# Altium schematic symbol library Kanaloa_v2.0.0_Motor.SchLib: 6 symbols
Pins are listed as number, name and electrical type; pins without a type are passive.

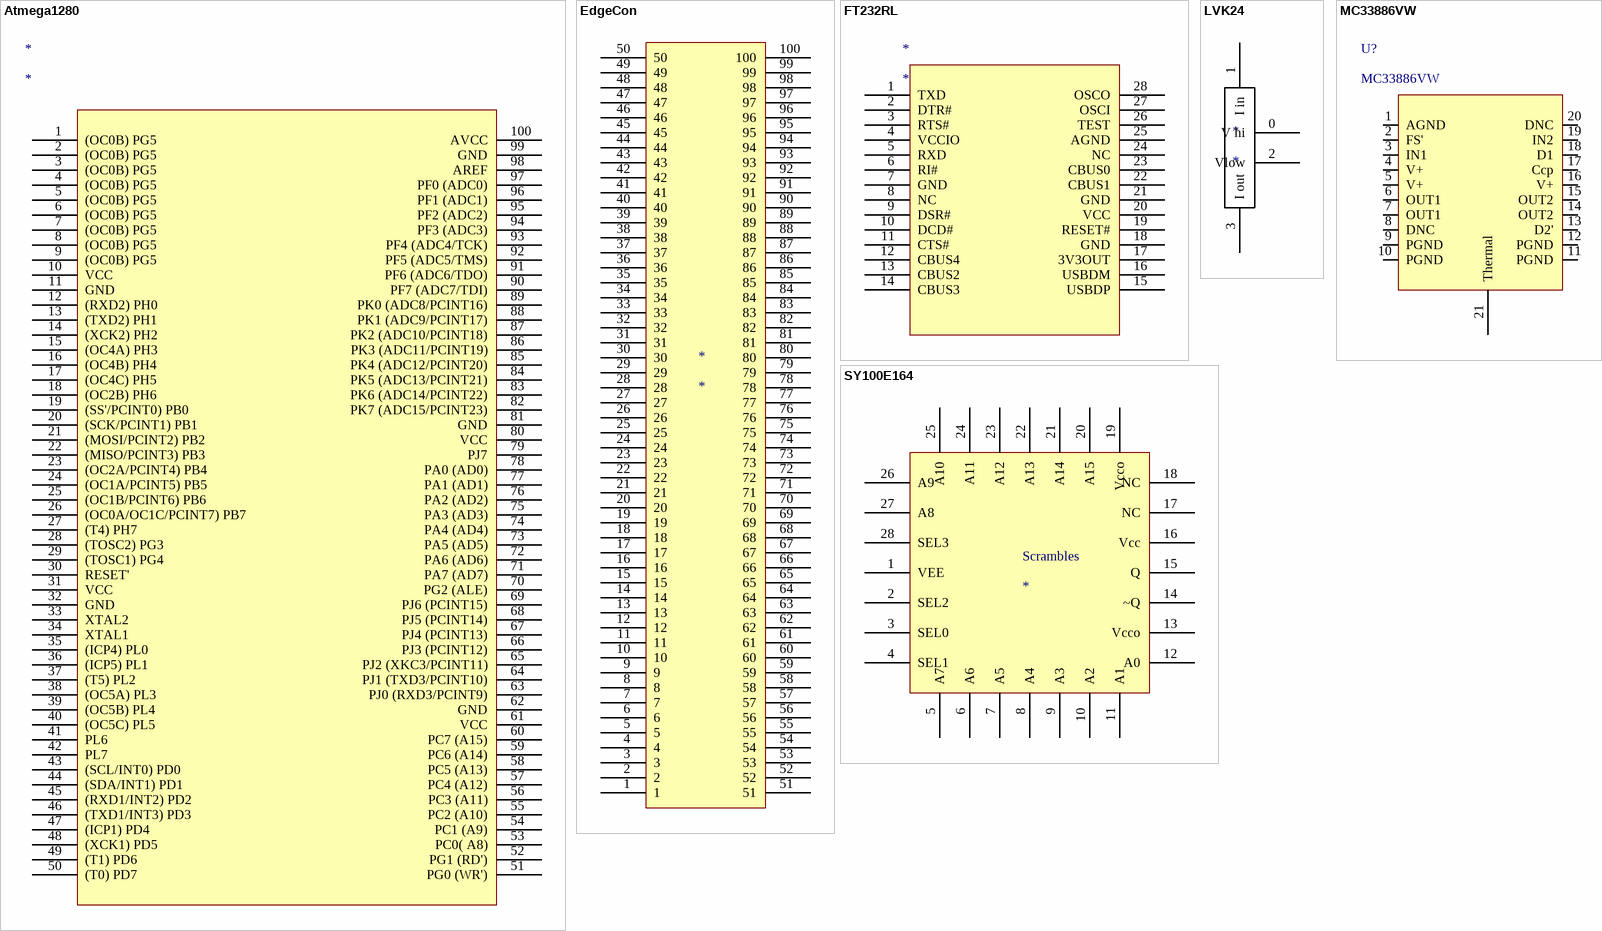
[diagram p0: symbols Atmega1280 to SY100E164]

## Atmega1280
designator *
footprint TSQFP50P1600X1600X120-100N (TSQFP, 100-Leads, Body 16.3x16.3mm (max), Pitch 0.50mm, IPC Medium Density)
pins: 1 (OC0B) PG5, 2 (OC0B) PG5, 3 (OC0B) PG5, 4 (OC0B) PG5, 5 (OC0B) PG5, 6 (OC0B) PG5, 7 (OC0B) PG5, 8 (OC0B) PG5, 9 (OC0B) PG5, 10 VCC, 11 GND, 12 (RXD2) PH0, 13 (TXD2) PH1, 14 (XCK2) PH2, 15 (OC4A) PH3, 16 (OC4B) PH4, 17 (OC4C) PH5, 18 (OC2B) PH6, 19 (SS'/PCINT0) PB0, 20 (SCK/PCINT1) PB1, 21 (MOSI/PCINT2) PB2, 22 (MISO/PCINT3) PB3, 23 (OC2A/PCINT4) PB4, 24 (OC1A/PCINT5) PB5, 25 (OC1B/PCINT6) PB6, 26 (OC0A/OC1C/PCINT7) PB7, 27 (T4) PH7, 28 (TOSC2) PG3, 29 (TOSC1) PG4, 30 RESET', 31 VCC, 32 GND, 33 XTAL2, 34 XTAL1, 35 (ICP4) PL0, 36 (ICP5) PL1, 37 (T5) PL2, 38 (OC5A) PL3, 39 (OC5B) PL4, 40 (OC5C) PL5, 41 PL6, 42 PL7, 43 (SCL/INT0) PD0, 44 (SDA/INT1) PD1, 45 (RXD1/INT2) PD2, 46 (TXD1/INT3) PD3, 47 (ICP1) PD4, 48 (XCK1) PD5, 49 (T1) PD6, 50 (T0) PD7, 51 PG0 (WR'), 52 PG1 (RD'), 53 PC0( A8), 54 PC1 (A9), 55 PC2 (A10), 56 PC3 (A11), 57 PC4 (A12), 58 PC5 (A13), 59 PC6 (A14), 60 PC7 (A15), 61 VCC, 62 GND, 63 PJ0 (RXD3/PCINT9), 64 PJ1 (TXD3/PCINT10), 65 PJ2 (XKC3/PCINT11), 66 PJ3 (PCINT12), 67 PJ4 (PCINT13), 68 PJ5 (PCINT14), 69 PJ6 (PCINT15), 70 PG2 (ALE), 71 PA7 (AD7), 72 PA6 (AD6), 73 PA5 (AD5), 74 PA4 (AD4), 75 PA3 (AD3), 76 PA2 (AD2), 77 PA1 (AD1), 78 PA0 (AD0), 79 PJ7, 80 VCC, 81 GND, 82 PK7 (ADC15/PCINT23), 83 PK6 (ADC14/PCINT22), 84 PK5 (ADC13/PCINT21), 85 PK4 (ADC12/PCINT20), 86 PK3 (ADC11/PCINT19), 87 PK2 (ADC10/PCINT18), 88 PK1 (ADC9/PCINT17), 89 PK0 (ADC8/PCINT16), 90 PF7 (ADC7/TDI), 91 PF6 (ADC6/TDO), 92 PF5 (ADC5/TMS), 93 PF4 (ADC4/TCK), 94 PF3 (ADC3), 95 PF2 (ADC2), 96 PF1 (ADC1), 97 PF0 (ADC0), 98 AREF, 99 GND, 100 AVCC

## EdgeCon
designator *
footprint 5645235-3 CON
pins: 1, 2, 3, 4, 5, 6, 7, 8, 9, 10, 11, 12, 13, 14, 15, 16, 17, 18, 19, 20, 21, 22, 23, 24, 25, 26, 27, 28, 29, 30, 31, 32, 33, 34, 35, 36, 37, 38, 39, 40, 41, 42, 43, 44, 45, 46, 47, 48, 49, 50, 51, 52, 53, 54, 55, 56, 57, 58, 59, 60, 61, 62, 63, 64, 65, 66, 67, 68, 69, 70, 71, 72, 73, 74, 75, 76, 77, 78, 79, 80, 81, 82, 83, 84, 85, 86, 87, 88, 89, 90, 91, 92, 93, 94, 95, 96, 97, 98, 99, 100

## FT232RL
designator *
footprint SOP65P780X200-28N (SOP, 28-Leads, Body 10.5x5.6mm (max), Pitch 0.65mm, IPC Medium Density)
pins: 1 TXD, 2 DTR#, 3 RTS#, 4 VCCIO, 5 RXD, 6 RI#, 7 GND, 8 NC, 9 DSR#, 10 DCD#, 11 CTS#, 12 CBUS4, 13 CBUS2, 14 CBUS3, 15 USBDP, 16 USBDM, 17 3V3OUT, 18 GND, 19 RESET#, 20 VCC, 21 GND, 22 CBUS1, 23 CBUS0, 24 NC, 25 AGND, 26 TEST, 27 OSCI, 28 OSCO

## LVK24
designator *
footprint LVK24 Ohmite
pins: 0 V hi, 1 I in, 2 Vlow, 3 I out

## MC33886VW
designator U?
Motor Controller
footprint SOP127P1420X340_HS-20N (SOP, 20-Leads, Body 11.1x7.5mm (max), Pitch 1.27mm, IPC Medium Density)
pins: 1 AGND, 2 FS', 3 IN1, 4 V+, 5 V+, 6 OUT1, 7 OUT1, 8 DNC, 9 PGND, 10 PGND, 11 PGND, 12 PGND, 13 D2', 14 OUT2, 15 OUT2, 16 V+, 17 Ccp, 18 D1, 19 IN2, 20 DNC, 21 Thermal

## SY100E164
designator Scrambles
Multiplexer
pins: 1 VEE, 2 SEL2, 3 SEL0, 4 SEL1, 5 A7, 6 A6, 7 A5, 8 A4, 9 A3, 10 A2, 11 A1, 12 A0, 13 Vcco, 14 ~Q, 15 Q, 16 Vcc, 17 NC, 18 NC, 19 Vcco, 20 A15, 21 A14, 22 A13, 23 A12, 24 A11, 25 A10, 26 A9, 27 A8, 28 SEL3